# EAGLE library part ADUM140X (library Fugu_LSI)
3.0 kV RMS/3.75 kV RMS Quad Digital Isolators
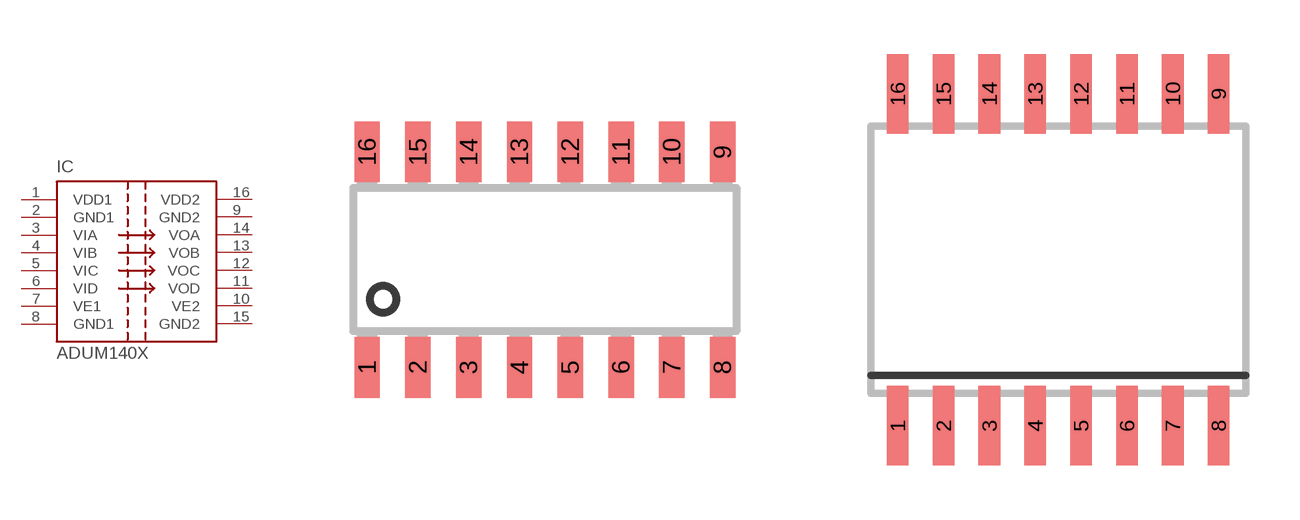
[diagram p32: symbol with the pads of SOIC16; footprints SOIC16, SO16DW]

Designator prefix IC

## ADUM140XN  [SOIC16]
1  VDD1  pwr
2  GND1  sup
3  VIA  in
4  VIB  in
5  VIC  in
6  VID  in
7  VE1  pas
8  GND1  sup
9  GND2  sup
10  VE2  pas
11  VOD  out
12  VOC  out
13  VOB  out
14  VOA  out
15  GND2  sup
16  VDD2  pwr

## ADUM140XW  [SO16DW]
Pads as for SOIC16

## Footprint SOIC16 (pad centres in mm)
SMALL OUTLINE INTEGRATED CIRCUIT 16-Pin (150-Mil) SOIC Source: http://www.cypress.com .. 38-12025_0P_V.pdf
smd 0.635 x 1.524: 1 -4.445,-2.695; 2 -3.175,-2.695; 3 -1.905,-2.695; 4 -0.635,-2.695; 5 0.635,-2.695; 6 1.905,-2.695; 7 3.175,-2.695; 8 4.445,-2.695; 9 4.445,2.695; 10 3.175,2.695; 11 1.905,2.695; 12 0.635,2.695; 13 -0.635,2.695; 14 -1.905,2.695; 15 -3.175,2.695; 16 -4.445,2.695

## Footprint SO16DW (pad centres in mm)
SOIC 16 DW SUFFIX PLASTIC SOIC PACKAGE CASE 751G-03 ISSUE B http://www.onsemi.com/pub/Collateral/MC14536B-D.PDF
smd 0.6 x 2.2: 1 -4.445,-4.6; 2 -3.175,-4.6; 3 -1.905,-4.6; 4 -0.635,-4.6; 5 0.635,-4.6; 6 1.905,-4.6; 7 3.175,-4.6; 8 4.445,-4.6; 9 4.445,4.6; 10 3.175,4.6; 11 1.905,4.6; 12 0.635,4.6; 13 -0.635,4.6; 14 -1.905,4.6; 15 -3.175,4.6; 16 -4.445,4.6